# Altium schematic symbol library Molex Pico SPOX.SchLib: 8 symbols
Pins are listed as number, name and electrical type; pins without a type are passive.

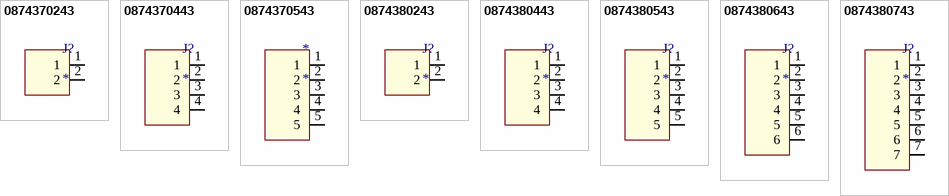
[diagram p0: symbols 0874370243 to 0874380743]

## 0874370243
designator J?
CONN HEADER SMD 2POS 1.5MM; Manufacturer 1: Molex; Manufacturer Part Number 1: 0874370243; Contact Resistance: 40mR; Number of Positions: 2; Connector Type: Male Pin; Supplier 1: Digi-Key; Stock 1: 0; RoHS: Yes; Mount: Surface Mount; Contact Plating: Tin; Contact Material: Brass; Color: Beige; Housing Color: Beige; Housing Material: Nylon; Min Operating Temperature: -55°C; Max Operating Temperature: 105°C; Packaging: Tape and Reel; Number of Rows: 1; Termination: Solder; Number of Contacts: 2; Orientation: Straight; Length: 4.3mm; Pitch: 1.5mm; Contact Mating Length: 0.106inch; Depth: 4.45mm; ComponentLink1URL: https://datasheet.ciiva.com/6813/874370443-sd-6813714.pdf?src-supplier=Digi-Key; ComponentLink1Description: https://datasheet.ciiva.com/6813/874370443-sd-6813714.pdf?src-supplier=Digi-Key; ComponentLink2URL: https://datasheet.ciiva.com/6832/874370243-sd-6832357.pdf?src-supplier=Digi-Key; ComponentLink2Description: https://datasheet.ciiva.com/6832/874370243-sd-6832357.pdf?src-supplier=Digi-Key; ComponentLink3URL: https://datasheet.ciiva.com/6832/874370243-sd-6832359.pdf?src-supplier=Digi-Key; ComponentLink3Description: https://datasheet.ciiva.com/6832/874370243-sd-6832359.pdf?src-supplier=Digi-Key
footprint 0874370243
pins: 1, 2

## 0874370443
designator J?
CONN HEADER SMD 4POS 1.5MM; Manufacturer 1: Molex; Manufacturer Part Number 1: 0874370443; Contact Resistance: 40mR; Number of Positions: 4; Connector Type: Male Pin; Supplier 1: Digi-Key; Stock 1: 0; RoHS: Yes; Mount: Surface Mount; Contact Plating: Tin; Contact Material: Brass; Housing Color: Beige; Housing Material: Nylon; Color: Beige; Min Operating Temperature: -55°C; Max Operating Temperature: 105°C; Packaging: Tape and Reel; Number of Rows: 1; Termination: Solder; Number of Contacts: 4; Orientation: Straight; Length: 7.3mm; Pitch: 1.5mm; Contact Mating Length: 0.106inch; Depth: 4.45mm; ComponentLink1URL: https://datasheet.ciiva.com/6813/874370443-sd-6813714.pdf?src-supplier=Digi-Key; ComponentLink1Description: https://datasheet.ciiva.com/6813/874370443-sd-6813714.pdf?src-supplier=Digi-Key; ComponentLink2URL: https://datasheet.ciiva.com/3935/197970874370443-pcb-headers-3935892.pdf?src-supplier=Arrow; ComponentLink2Description: https://datasheet.ciiva.com/3935/197970874370443-pcb-headers-3935892.pdf?src-supplier=Arrow; ComponentLink3URL: https://datasheet.ciiva.com/6813/874370443-sd-6813717.pdf?src-supplier=Digi-Key; ComponentLink3Description: https://datasheet.ciiva.com/6813/874370443-sd-6813717.pdf?src-supplier=Digi-Key; ComponentLink4URL: https://datasheet.ciiva.com/6813/874370443-sd-6813721.pdf?src-supplier=Digi-Key; ComponentLink4Description: https://datasheet.ciiva.com/6813/874370443-sd-6813721.pdf?src-supplier=Digi-Key
footprint 0874370443
pins: 1, 2, 3, 4

## 0874370543
designator *
CONN HEADER SMD 5POS 1.5MM; Manufacturer 1: Molex; Manufacturer Part Number 1: 87437-0543; Gender: Male; Contact Resistance: 40mR; Current Rating: 2.5A; Max Current Rating: 3A; Voltage Rating: 250V; Number of Positions: 5; Max Voltage Rating (AC): 350V; Insulation Resistance: 1GR; Glow Wire Compliant: Non-compliant; Supplier 1: Digi-Key; Stock 1: 13019; Pricing 1: 1=0.94000, 10=0.82300, 100=0.70980, 500=0.58074 (USD); RoHS: Yes; Mount: Surface Mount; Contact Plating: Tin; Contact Material: Brass; Housing Color: Beige; Color: Beige; Material: Nylon; Housing Material: Nylon; Min Operating Temperature: -55°C; Max Operating Temperature: 105°C; Packaging: Tape and Reel; Number of Rows: 1; Package Quantity: 1000; Contact Gender: Male; Termination: Solder; Number of Contacts: 5; Orientation: Vertical; Number of Circuits: 5; Voltage Rating (DC): 350V; Length: 8.8mm; Height: 5.75mm; Pitch: 1.5mm; Depth: 4.45mm; Radiation Hardening: No; REACH SVHC: Unknown; Lead Free: Contains Lead; Flammability Rating: UL94 V-0; ComponentLink1URL: https://datasheet.ciiva.com/27051/1303311-27051923.pdf?src-supplier=Jameco; ComponentLink1Description: https://datasheet.ciiva.com/27051/1303311-27051923.pdf?src-supplier=Jameco; ComponentLink2URL: https://datasheet.ciiva.com/5158/0874370543-pcb-headers-154282-5158212.pdf?src-supplier=Mouser; ComponentLink2Description: https://datasheet.ciiva.com/5158/0874370543-pcb-headers-154282-5158212.pdf?src-supplier=Mouser; ComponentLink3URL: https://datasheet.ciiva.com/25307/1845460-25307518.pdf?src-supplier=Newark; ComponentLink3Description: https://datasheet.ciiva.com/25307/1845460-25307518.pdf?src-supplier=Newark; ComponentLink4URL: https://datasheet.ciiva.com/30104/38220874370543-pcb-headers-30104695.pdf?src-supplier=Onlinecomponents.com; ComponentLink4Description: https://datasheet.ciiva.com/30104/38220874370543-pcb-headers-30104695.pdf?src-supplier=Onlinecomponents.com; ComponentLink5URL: https://datasheet.ciiva.com/7683/1631187-7683836.pdf?src-supplier=Element14; ComponentLink5Description: https://datasheet.ciiva.com/7683/1631187-7683836.pdf?src-supplier=Element14
footprint 0874370543
pins: 1, 2, 3, 4, 5

## 0874380243
designator J?
CONN HEADER SMD R/A 2POS 1.5MM; Manufacturer 1: Molex; Manufacturer Part Number 1: 87438-0243; Number of Positions: 2; Current Rating: 2.5A; Voltage Rating: 250V; Contact Resistance: 40mR; Max Voltage Rating (AC): 350V; Gender: Male; Insulation Resistance: 1GR; Glow Wire Compliant: Non-compliant; Supplier 1: Digi-Key; Stock 1: 9283; Pricing 1: 1=0.65000, 10=0.60700, 100=0.46530, 500=0.40458 (USD); RoHS: Yes; Mount: Surface Mount; Contact Material: Brass; Contact Plating: Tin; Color: Natural; Housing Color: Beige; Material: Nylon; Housing Material: Thermoplastic; Min Operating Temperature: -55°C; Max Operating Temperature: 105°C; Number of Rows: 1; Packaging: Tape and Reel; Termination: SMD/SMT; Package Quantity: 3000; Contact Gender: Male; Number of Contacts: 2; Orientation: Right Angle; Number of Circuits: 2; Voltage Rating (DC): 350V; Pitch: 1.5mm; Radiation Hardening: No; Flammability Rating: UL94 V-0; REACH SVHC: Unknown; Lead Free: Lead Free; ComponentLink1URL: https://datasheet.ciiva.com/9470/0874380243-pcb-headers-9470001.pdf?src-supplier=Avnet; ComponentLink1Description: https://datasheet.ciiva.com/9470/0874380243-pcb-headers-9470001.pdf?src-supplier=Avnet; ComponentLink2URL: https://datasheet.ciiva.com/5148/0874380243-pcb-headers-154368-5148306.pdf?src-supplier=Mouser; ComponentLink2Description: https://datasheet.ciiva.com/5148/0874380243-pcb-headers-154368-5148306.pdf?src-supplier=Mouser; ComponentLink3URL: https://datasheet.ciiva.com/30159/64270874380243-pcb-headers-30159714.pdf?src-supplier=Onlinecomponents.com; ComponentLink3Description: https://datasheet.ciiva.com/30159/64270874380243-pcb-headers-30159714.pdf?src-supplier=Onlinecomponents.com; ComponentLink4URL: https://datasheet.ciiva.com/34302/1303337-34302183.pdf?src-supplier=Jameco; ComponentLink4Description: https://datasheet.ciiva.com/34302/1303337-34302183.pdf?src-supplier=Jameco; ComponentLink5URL: https://datasheet.ciiva.com/11752/0900766b80d6c16c-11752540.pdf?src-supplier=RSComponents; ComponentLink5Description: https://datasheet.ciiva.com/11752/0900766b80d6c16c-11752540.pdf?src-supplier=RSComponents; ComponentLink6URL: https://datasheet.ciiva.com/16656/0874380243-pcb-headers-16656757.pdf?src-supplier=Avnet+Europe; ComponentLink6Description: https://datasheet.ciiva.com/16656/0874380243-pcb-headers-16656757.pdf?src-supplier=Avnet+Europe
footprint 0874380243
pins: 1, 2

## 0874380443
designator J?
CONN HEADER SMD R/A 4POS 1.5MM; Manufacturer 1: Molex; Manufacturer Part Number 1: 87438-0443; Number of Positions: 4; Gender: Male; Contact Resistance: 40mR; Current Rating: 2.5A; Voltage Rating: 250V; Max Voltage Rating (AC): 350V; Insulation Resistance: 1GR; Glow Wire Compliant: Non-compliant; Supplier 1: Digi-Key; Stock 1: 26702; Pricing 1: 1=0.87000, 10=0.76500, 100=0.65990, 500=0.53994 (USD); RoHS: Yes; Mount: Surface Mount; Weight: 0.008078oz; Contact Plating: Tin; Contact Material: Brass; Color: Natural; Housing Color: Beige; Material: Nylon; Housing Material: Thermoplastic; Min Operating Temperature: -55°C; Max Operating Temperature: 105°C; Number of Rows: 1; Packaging: Tape and Reel; Termination: SMD/SMT; Contact Gender: Male; Number of Contacts: 4; Orientation: Right Angle; Number of Circuits: 4; Voltage Rating (DC): 350V; Pitch: 1.5mm; Radiation Hardening: No; Flammability Rating: UL94 V-0; REACH SVHC: Unknown; Lead Free: Lead Free; ComponentLink1URL: https://datasheet.ciiva.com/16498/0874380443-pcb-headers-16498208.pdf?src-supplier=Avnet+Asia; ComponentLink1Description: https://datasheet.ciiva.com/16498/0874380443-pcb-headers-16498208.pdf?src-supplier=Avnet+Asia; ComponentLink2URL: https://datasheet.ciiva.com/5148/0874380443-pcb-headers-154285-5148100.pdf?src-supplier=Mouser; ComponentLink2Description: https://datasheet.ciiva.com/5148/0874380443-pcb-headers-154285-5148100.pdf?src-supplier=Mouser; ComponentLink3URL: https://datasheet.ciiva.com/11748/0900766b80d6c16c-11748037.pdf?src-supplier=RSComponents; ComponentLink3Description: https://datasheet.ciiva.com/11748/0900766b80d6c16c-11748037.pdf?src-supplier=RSComponents; ComponentLink4URL: https://datasheet.ciiva.com/3932/77440874380443-pcb-headers-3932893.pdf?src-supplier=Arrow; ComponentLink4Description: https://datasheet.ciiva.com/3932/77440874380443-pcb-headers-3932893.pdf?src-supplier=Arrow; ComponentLink5URL: https://datasheet.ciiva.com/7844/1631198-7844075.pdf?src-supplier=Element14; ComponentLink5Description: https://datasheet.ciiva.com/7844/1631198-7844075.pdf?src-supplier=Element14
footprint 0874380443
pins: 1, 2, 3, 4

## 0874380543
designator J?
CONN HEADER SMD R/A 5POS 1.5MM; Manufacturer 1: Molex; Manufacturer Part Number 1: 0874380543; Contact Resistance: 40mR; Number of Positions: 5; Max Voltage Rating (AC): 350V; Connector Type: Male Pin; Pitch: 0.059inch; Supplier 1: Digi-Key; Stock 1: 0; RoHS: Yes; Mount: Surface Mount; Color: Beige; Contact Plating: Tin; Contact Material: Brass; Housing Color: Natural; Housing Material: Thermoplastic; Min Operating Temperature: -55°C; Max Operating Temperature: 105°C; Number of Rows: 1; Packaging: Tape and Reel; Termination: Solder; Orientation: Right Angle; Length: 8.8mm; Contact Mating Length: 0.106inch; Depth: 5.75mm; Radiation Hardening: No; ComponentLink1URL: https://datasheet.ciiva.com/6813/874380443-sd-6813732.pdf?src-supplier=Digi-Key; ComponentLink1Description: https://datasheet.ciiva.com/6813/874380443-sd-6813732.pdf?src-supplier=Digi-Key; ComponentLink2URL: https://datasheet.ciiva.com/14804/125810874380543-pcb-headers-14804711.pdf?src-supplier=Arrow; ComponentLink2Description: https://datasheet.ciiva.com/14804/125810874380543-pcb-headers-14804711.pdf?src-supplier=Arrow
footprint 0874380543
pins: 1, 2, 3, 4, 5

## 0874380643
designator J?
CONN HEADER SMD R/A 6POS 1.5MM; Manufacturer 1: Molex; Manufacturer Part Number 1: 87438-0643; Number of Positions: 6; Gender: Male; Contact Resistance: 40mR; Current Rating: 2.5A; Voltage Rating: 250V; Max Voltage Rating (AC): 350V; Max Current Rating: 3.9A; Insulation Resistance: 1GR; Glow Wire Compliant: Non-compliant; Supplier 1: Digi-Key; Stock 1: 9155; Pricing 1: 1=1.02000, 10=0.89700, 100=0.77420, 500=0.63340 (USD); RoHS: Yes; Mount: Surface Mount,Through Hole; Contact Plating: Tin,Gold; Contact Material: Brass,Bronze; Housing Color: Black; Color: Natural; Material: Nylon; Housing Material: Thermoplastic; Min Operating Temperature: -55°C; Max Operating Temperature: 105°C; Number of Rows: 1; Packaging: Tape and Reel; Termination: SMD/SMT; Package Quantity: 1000; Contact Gender: Male; Number of Contacts: 6; Orientation: Right Angle; Number of Circuits: 6; Voltage Rating (DC): 350V; Length: 16mm; Height: 4.7mm; Pitch: 1.5mm; Depth: 3.94mm; Radiation Hardening: No; Flammability Rating: UL94 V-0; REACH SVHC: Unknown; Lead Free: Lead Free; ComponentLink1URL: https://datasheet.ciiva.com/11746/0900766b80d6c16c-11746913.pdf?src-supplier=RSComponents; ComponentLink1Description: https://datasheet.ciiva.com/11746/0900766b80d6c16c-11746913.pdf?src-supplier=RSComponents; ComponentLink2URL: https://datasheet.ciiva.com/10086/0874380643-pcb-headers-10086450.pdf?src-supplier=Avnet; ComponentLink2Description: https://datasheet.ciiva.com/10086/0874380643-pcb-headers-10086450.pdf?src-supplier=Avnet; ComponentLink3URL: https://datasheet.ciiva.com/30258/207270874380643-pcb-headers-30258547.pdf?src-supplier=Onlinecomponents.com; ComponentLink3Description: https://datasheet.ciiva.com/30258/207270874380643-pcb-headers-30258547.pdf?src-supplier=Onlinecomponents.com; ComponentLink4URL: https://datasheet.ciiva.com/5154/0874380643-pcb-headers-154286-5154783.pdf?src-supplier=Mouser; ComponentLink4Description: https://datasheet.ciiva.com/5154/0874380643-pcb-headers-154286-5154783.pdf?src-supplier=Mouser; ComponentLink5URL: https://datasheet.ciiva.com/7917/491865-7917072.pdf?src-supplier=Element14; ComponentLink5Description: https://datasheet.ciiva.com/7917/491865-7917072.pdf?src-supplier=Element14
footprint 0874380643
pins: 1, 2, 3, 4, 5, 6

## 0874380743
designator J?
CONN HEADER SMD R/A 7POS 1.5MM; Manufacturer 1: Molex; Manufacturer Part Number 1: 0874380743; Contact Resistance: 40mR; Number of Positions: 7; Max Voltage Rating (AC): 350V; Connector Type: Male Pin; Supplier 1: Digi-Key; Stock 1: 45720; Pricing 1: 1=1.20000, 10=1.05900, 100=0.91330, 500=0.74726 (USD); RoHS: Yes; Mount: Surface Mount; Contact Plating: Tin; Color: Beige; Contact Material: Brass; Housing Color: Beige; Housing Material: Thermoplastic; Min Operating Temperature: -55°C; Max Operating Temperature: 105°C; Number of Rows: 1; Packaging: Tape and Reel; Termination: Solder; Number of Contacts: 7; Orientation: Right Angle; Length: 11.8mm; Pitch: 1.5mm; Contact Mating Length: 0.106inch; Depth: 7.75mm; ComponentLink1URL: https://datasheet.ciiva.com/6813/874380443-sd-6813732.pdf?src-supplier=Digi-Key; ComponentLink1Description: https://datasheet.ciiva.com/6813/874380443-sd-6813732.pdf?src-supplier=Digi-Key; ComponentLink2URL: https://datasheet.ciiva.com/10087/0874380743-pcb-headers-10087200.pdf?src-supplier=Avnet; ComponentLink2Description: https://datasheet.ciiva.com/10087/0874380743-pcb-headers-10087200.pdf?src-supplier=Avnet; ComponentLink3URL: https://datasheet.ciiva.com/18486/874380743-sd-18486791.pdf?src-supplier=Digi-Key; ComponentLink3Description: https://datasheet.ciiva.com/18486/874380743-sd-18486791.pdf?src-supplier=Digi-Key; ComponentLink4URL: https://datasheet.ciiva.com/18486/874380743-sd-18486792.pdf?src-supplier=Digi-Key; ComponentLink4Description: https://datasheet.ciiva.com/18486/874380743-sd-18486792.pdf?src-supplier=Digi-Key
footprint 0874380743
pins: 1, 2, 3, 4, 5, 6, 7